# Altium schematic symbol library SCH - DAC - OPA727AIDGKT.SCHLIB: 1 symbol
Pins are listed as number, name and electrical type; pins without a type are passive.

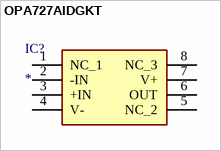
[diagram p0: symbol OPA727AIDGKT]

## OPA727AIDGKT
designator IC?
Integrated Circuit; Manufacturer_Name: Texas Instruments; Manufacturer_Part_Number: OPA727AIDGKT; Datasheet Link: http://www.ti.com/lit/ds/symlink/opa727.pdf; Height: 1.1mm
footprint SOP65P490X110-8N
pins: 1 NC_1, 2 -IN, 3 +IN, 4 V-, 5 NC_2, 6 OUT, 7 V+, 8 NC_3